# EAGLE library part IPLD910 (library pld-intel)
PLD
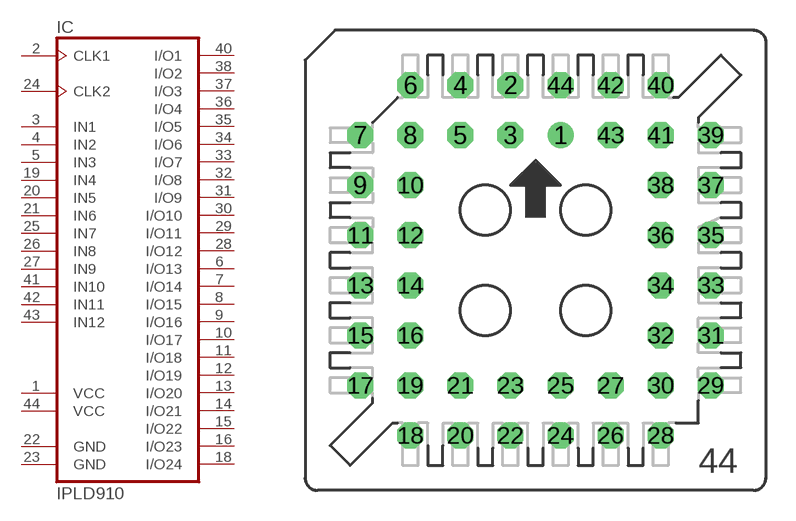
[diagram p2: symbol with the pads of S44; footprint S44]

Designator prefix IC

## IPLD910 (OC_FARNELL: unknown; OC_NEWARK: unknown)  [S44]
1  VCC  pwr
2  CLK1  in
3  IN1  in
4  IN2  in
5  IN3  in
6  I/O13
7  I/O14
8  I/O15
9  I/O16
10  I/O17
11  I/O18
12  I/O19
13  I/O20
14  I/O21
15  I/O22
16  I/O23
18  I/O24
19  IN4  in
20  IN5  in
21  IN6  in
22  GND  pwr
23  GND  pwr
24  CLK2  in
25  IN7  in
26  IN8  in
27  IN9  in
28  I/O12
29  I/O11
30  I/O10
31  I/O9
32  I/O8
33  I/O7
34  I/O6
35  I/O5
36  I/O4
37  I/O3
38  I/O2
40  I/O1
41  IN10  in
42  IN11  in
43  IN12  in
44  VCC  pwr

## Footprint S44 (pad centres in mm)
PLCC SOCKET
drill 0.813: 1 1.27,6.35
drill 0.813 octagon: 2 -1.27,8.89; 3 -1.27,6.35; 4 -3.81,8.89; 5 -3.81,6.35; 6 -6.35,8.89; 7 -8.89,6.35; 8 -6.35,6.35; 9 -8.89,3.81; 10 -6.35,3.81; 11 -8.89,1.27; 12 -6.35,1.27; 13 -8.89,-1.27; 14 -6.35,-1.27; 15 -8.89,-3.81; 16 -6.35,-3.81; 17 -8.89,-6.35; 18 -6.35,-8.89; 19 -6.35,-6.35; 20 -3.81,-8.89; 21 -3.81,-6.35; 22 -1.27,-8.89; 23 -1.27,-6.35; 24 1.27,-8.89; 25 1.27,-6.35; 26 3.81,-8.89; 27 3.81,-6.35; 28 6.35,-8.89; 29 8.89,-6.35; 30 6.35,-6.35; 31 8.89,-3.81; 32 6.35,-3.81; 33 8.89,-1.27; 34 6.35,-1.27; 35 8.89,1.27; 36 6.35,1.27; 37 8.89,3.81; 38 6.35,3.81; 39 8.89,6.35; 40 6.35,8.89; 41 6.35,6.35; 42 3.81,8.89; 43 3.81,6.35; 44 1.27,8.89